# Altium schematic symbol library 常用IC.SchLib: 1 symbol
Pins are listed as number, name and electrical type; pins without a type are passive.

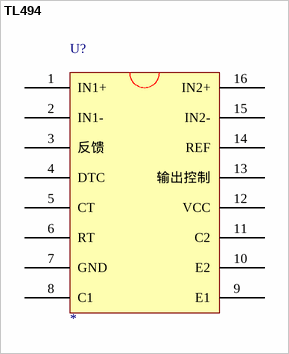
[diagram p0: symbol TL494]

## TL494
designator U?
footprint DIP-16
footprint DIP16
pins: 1 IN1+, 2 IN1-, 3 反馈, 4 DTC, 5 CT, 6 RT, 7 GND, 8 C1, 9 E1, 10 E2, 11 C2, 12 VCC, 13 输出控制, 14 REF, 15 IN2-, 16 IN2+